# Altium footprint library AIMLAB_TESTSTATION_ADC_V1.PcbLib: 45 footprints (part 3 of 3)
Each footprint in its own frame and in the unit in brackets; x right, y up, seen from the top. Pads: shape width x height; smd on the part's side, far side on the other; paste and mask are expansions set on the pad; w line width, h text height; cw(c..) or ccw(c..) is an arc to the next point about the centre after c.
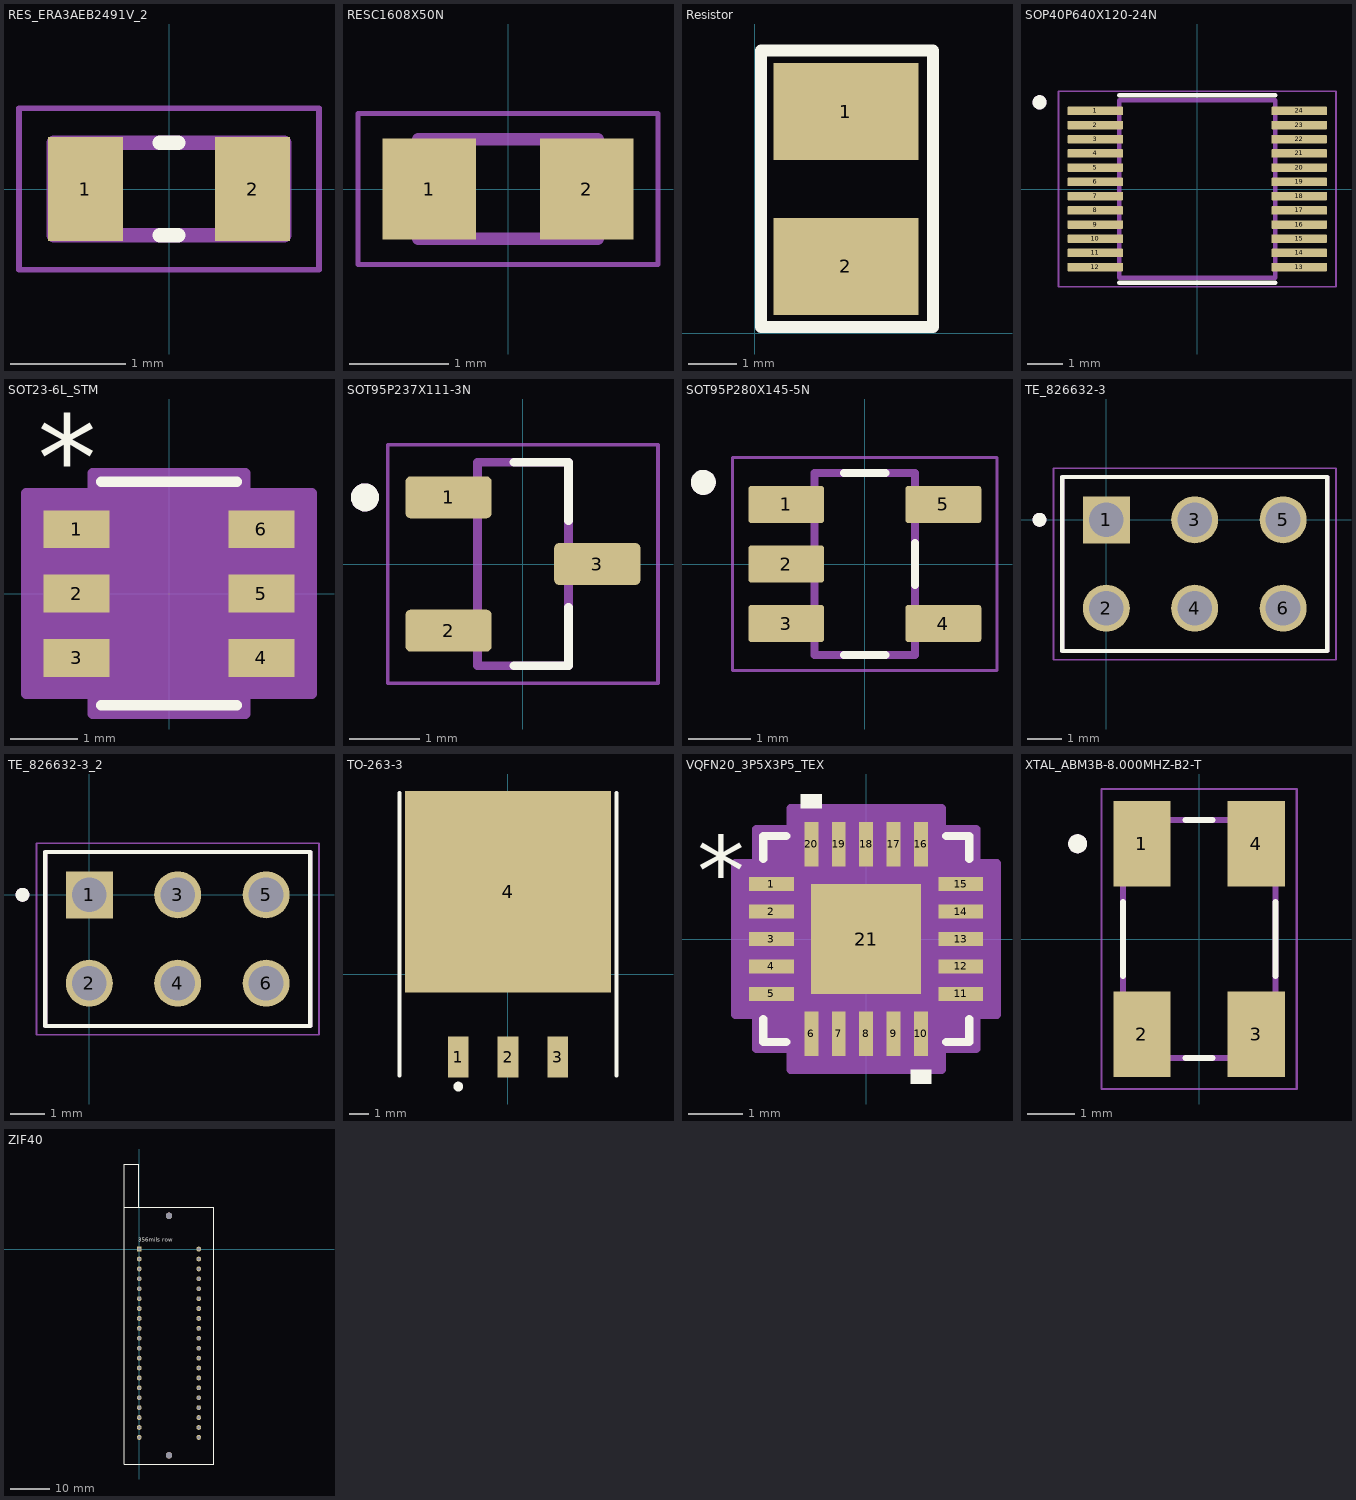
[diagram p2: the footprints below, top view; thin cyan lines are the x and y axes]

## RES_ERA3AEB2491V_2 [mm]
pads (2):
  rect 0.65x0.9 smd: 1(-0.725,0) 2(0.725,0)
Top Overlay:
  lines w0.127: -0.08,-0.4 0.08,-0.4 ; -0.08,0.4 0.08,0.4
Mechanical 13:
  lines w0.127: -1,-0.4 -1,0.4 1,0.4 1,-0.4 -1,-0.4
Mechanical 15:
  lines w0.05: -1.3,-0.7 -1.3,0.7 1.3,0.7 1.3,-0.7 -1.3,-0.7

## RESC1608X50N [mm]
pads (2):
  rect 0.94x1.02 smd: 1(-0.79,0) 2(0.79,0)
Mechanical 13:
  lines w0.127: -0.9,-0.5 -0.9,0.5 0.9,0.5 0.9,-0.5 -0.9,-0.5
Mechanical 15:
  lines w0.05: -1.508,-0.758 -1.508,0.758 1.508,0.758 1.508,-0.758 -1.508,-0.758

## Resistor [mm]
pads (2):
  rect 3x2 smd: 1(1.881,4.581) 2(1.881,1.381)
Top Overlay:
  lines w0.254: 0.127,0.127 0.127,5.842 3.683,5.842 3.683,0.127 0.127,0.127

## SOP40P640X120-24N [mm]
height 1
pads (24):
  rrect25% 1.57x0.24 smd: 1(-2.87,2.2) 2(-2.87,1.8) 3(-2.87,1.4) 4(-2.87,1) 5(-2.87,0.6) 6(-2.87,0.2) 7(-2.87,-0.2) 8(-2.87,-0.6) 9(-2.87,-1) 10(-2.87,-1.4) 11(-2.87,-1.8) 12(-2.87,-2.2) 13(2.87,-2.2) 14(2.87,-1.8) 15(2.87,-1.4) 16(2.87,-1) 17(2.87,-0.6) 18(2.87,-0.2) 19(2.87,0.2) 20(2.87,0.6) 21(2.87,1) 22(2.87,1.4) 23(2.87,1.8) 24(2.87,2.2)
Top Overlay:
  circle w0.2: c-4.44,2.44 r0.1
  lines w0.127: -2.2,-2.64 2.2,-2.64 ; -2.2,2.64 2.2,2.64
Mechanical 13:
  circle w0.2: c-4.44,2.44 r0.1
  lines w0.127: -2.2,-2.5 2.2,-2.5 2.2,2.5 -2.2,2.5 -2.2,-2.5
Mechanical 15:
  lines w0.05: -3.905,-2.75 3.905,-2.75 3.905,2.75 -3.905,2.75 -3.905,-2.75

## SOT23-6L_STM [mil]
pads (6):
  rect 38.5x22 smd paste+0 mask+0: 1(-53.75,37.4) 2(-53.75,0) 3(-53.75,-37.4) 4(53.75,-37.4) 5(53.75,0) 6(53.75,37.4)
Top Overlay:
  lines w6: -39.5,-65 39.5,-65 ; -39.5,65 39.5,65
  text "*" at -76.25,54.4 h50
Mechanical 13:
  lines w0: -12,60 ccw(c0,60) 12,60
  lines w1: -59,-47.4 -34.5,-47.4 -34.5,-27.4 -59,-27.4 -59,-47.4 ; -59,-10 -34.5,-10 -34.5,10 -59,10 -59,-10 ; -59,27.4 -34.5,27.4 -34.5,47.4 -59,47.4 -59,27.4 ; -34.5,-60 -34.5,60 34.5,60 34.5,-60 -34.5,-60 ; 34.5,-47.4 59,-47.4 59,-27.4 34.5,-27.4 34.5,-47.4 ; 34.5,-10 59,-10 59,10 34.5,10 34.5,-10 ; 34.5,27.4 59,27.4 59,47.4 34.5,47.4 34.5,27.4
  text "*" at -32,7 h50
Mechanical 15:
  region: -44.5,-58.4 -83,-58.4 -83,58.4 -44.5,58.4 -44.5,70 44.5,70 44.5,58.4 83,58.4 83,-58.4 44.5,-58.4 44.5,-70 -44.5,-70
  lines w6: -83,-58.4 -44.5,-58.4 -44.5,-70 44.5,-70 44.5,-58.4 83,-58.4 83,58.4 44.5,58.4 44.5,70 -44.5,70 -44.5,58.4 -83,58.4 -83,-58.4
3D body "SOT23-6L_STM.step": height 57.09, standoff 0, extent -59.02,-60 59.02,60

## SOT95P237X111-3N [mm]
height 1.11
pads (3):
  rrect25% 1.23x0.6 smd paste+0 mask+0.102: 1(-1.06,0.95) 2(-1.06,-0.95) 3(1.06,0)
Top Overlay:
  circle w0.2: c-2.25,0.95 r0.1
  lines w0.127: -0.125,-1.45 0.65,-1.45 0.65,-0.62 ; -0.125,1.45 0.65,1.45 0.65,0.62
Mechanical 13:
  circle w0.2: c-2.25,0.95 r0.1
  lines w0.127: -0.65,-1.45 -0.65,1.45 0.65,1.45 0.65,-1.45 -0.65,-1.45
Mechanical 15:
  lines w0.05: -1.925,-1.7 -1.925,1.7 1.925,1.7 1.925,-1.7 -1.925,-1.7

## SOT95P280X145-5N [mm]
height 1.45
pads (5):
  rrect15% 1.21x0.59 smd: 1(-1.255,0.95) 2(-1.255,0) 3(-1.255,-0.95) 4(1.255,-0.95) 5(1.255,0.95)
Top Overlay:
  circle w0.2: c-2.578,1.303 r0.1
  lines w0.127: -0.33,-1.45 0.33,-1.45 ; -0.33,1.45 0.33,1.45 ; 0.8,-0.335 0.8,0.335
Mechanical 13:
  circle w0.2: c-2.578,1.303 r0.1
  lines w0.127: -0.8,-1.45 -0.8,1.45 0.8,1.45 0.8,-1.45 -0.8,-1.45
Mechanical 15:
  lines w0.05: -2.11,-1.7 2.11,-1.7 2.11,1.7 -2.11,1.7 -2.11,-1.7

## TE_826632-3 [mm]
pads (6):
  rect 1.35x1.35 / inner round 1.35 / far side rect 1.35x1.35 hole 1: 1(0,0)
  round 1.35 hole 1: 2(0,-2.54) 3(2.54,0) 4(2.54,-2.54) 5(5.08,0) 6(5.08,-2.54)
Top Overlay:
  circle w0.2: c-1.92,0 r0.1
  lines w0.127: -1.27,-3.77 -1.27,1.23 6.35,1.23 6.35,-3.77 -1.27,-3.77
Mechanical 13:
  circle w0.2: c-1.92,0 r0.1
  lines w0.127: -1.27,-3.77 -1.27,1.23 6.35,1.23 6.35,-3.77 ; -1.27,-3.77 6.35,-3.77 ; -1.27,-3.77 6.35,-3.77
Mechanical 15:
  lines w0.05: -1.52,-4.02 -1.52,1.48 6.6,1.48 6.6,-4.02 -1.52,-4.02

## TE_826632-3_2 [mm]
pads (6):
  rect 1.35x1.35 / inner round 1.35 / far side rect 1.35x1.35 hole 1: 1(0,0)
  round 1.35 hole 1: 2(0,-2.54) 3(2.54,0) 4(2.54,-2.54) 5(5.08,0) 6(5.08,-2.54)
Top Overlay:
  circle w0.2: c-1.92,0 r0.1
  lines w0.127: -1.27,-3.77 -1.27,1.23 6.35,1.23 6.35,-3.77 -1.27,-3.77
Mechanical 13:
  circle w0.2: c-1.92,0 r0.1
  lines w0.127: -1.27,-3.77 -1.27,1.23 6.35,1.23 6.35,-3.77 ; -1.27,-3.77 6.35,-3.77 ; -1.27,-3.77 6.35,-3.77
Mechanical 15:
  lines w0.05: -1.52,-4.02 -1.52,1.48 6.6,1.48 6.6,-4.02 -1.52,-4.02

## TO-263-3 [mm]
pads (4):
  rect 1.05x2.1 smd: 1(-2.54,-4.225) 2(0,-4.225) 3(2.54,-4.225)
  rect 10.5x10.3 smd: 4(0,4.225)
Top Overlay:
  circle w0.25: c-2.54,-5.725 r0.125
  lines w0.2: -5.55,-5.175 -5.55,9.275 ; 5.55,-5.175 5.55,9.275

## VQFN20_3P5X3P5_TEX [mil]
height 39.37
pads (21):
  rect 32x10 smd paste+0 mask+0: 1(-68,39.37) 2(-68,19.68) 3(-68,0) 4(-68,-19.68) 5(-68,-39.37) 11(68,-39.37) 12(68,-19.68) 13(68,0) 14(68,19.68) 15(68,39.37)
  rect 10x32 smd paste+0 mask+0: 6(-39.37,-68) 7(-19.68,-68) 8(0,-68) 9(19.68,-68) 10(39.37,-68) 16(39.37,68) 17(19.68,68) 18(0,68) 19(-19.68,68) 20(-39.37,68)
  rect 79x79 smd paste+0 mask+0: 21(0,0)
Top Overlay:
  region: 46.87,-94 31.87,-94 31.87,-104 46.87,-104
  region: -31.87,94 -46.87,94 -46.87,104 -31.87,104
  lines w6: -74,-57.47 -74,-74 -57.47,-74 ; -74,57.47 -74,74 -57.47,74 ; 57.47,-74 74,-74 74,-57.47 ; 57.47,74 74,74 74,57.47
  text "*" at -121.5,24.21 h50
  text ".Designator" at -138.78,-34.36 h39.37
Mechanical 13:
  lines w1: -69,19 -19,69 ; -72,-45.37 -72,-33.37 -69,-33.37 -69,-45.37 -72,-45.37 ; -72,-25.68 -72,-13.69 -69,-13.69 -69,-25.68 -72,-25.68 ; -72,-6 -72,6 -69,6 -69,-6 -72,-6 ; -72,13.69 -72,25.68 -69,25.68 -69,13.69 -72,13.69 ; -72,33.37 -72,45.37 -69,45.37 -69,33.37 -72,33.37 ; -69,-69 69,-69 69,69 -69,69 -69,-69 ; -45.37,-72 -45.37,-69 -33.37,-69 -33.37,-72 -45.37,-72 ; -45.37,69 -33.37,69 -33.37,72 -45.37,72 -45.37,69 ; -25.68,-72 -25.68,-69 -13.69,-69 -13.69,-72 -25.68,-72 ; -25.68,69 -13.69,69 -13.69,72 -25.68,72 -25.68,69 ; -6,-72 -6,-69 6,-69 6,-72 -6,-72 ; -6,69 6,69 6,72 -6,72 -6,69 ; 13.69,-72 13.69,-69 25.68,-69 25.68,-72 13.69,-72 ; 13.69,69 25.68,69 25.68,72 13.69,72 13.69,69 ; 33.37,-72 33.37,-69 45.37,-69 45.37,-72 33.37,-72 ; 33.37,69 45.37,69 45.37,72 33.37,72 33.37,69 ; 69,-45.37 69,-33.37 72,-33.37 72,-45.37 69,-45.37 ; 69,-25.68 69,-13.69 72,-13.69 72,-25.68 69,-25.68 ; 69,-6 69,6 72,6 72,-6 69,-6 ; 69,13.69 69,25.68 72,25.68 72,13.69 69,13.69 ; 69,33.37 69,45.37 72,45.37 72,33.37 69,33.37
  text ".Designator" at -137.5,-25 h50
  text "*" at -64.5,24.21 h50
Mechanical 15:
  region: -54.37,-79 -79,-79 -79,-54.37 -94,-54.37 -94,54.37 -79,54.37 -79,79 -54.37,79 -54.37,94 54.37,94 54.37,79 79,79 79,54.37 94,54.37 94,-54.37 79,-54.37 79,-79 54.37,-79 54.37,-94 -54.37,-94
  lines w6: -94,-54.37 -79,-54.37 -79,-79 -54.37,-79 -54.37,-94 54.37,-94 54.37,-79 79,-79 79,-54.37 94,-54.37 94,54.37 79,54.37 79,79 54.37,79 54.37,94 -54.37,94 -54.37,79 -79,79 -79,54.37 -94,54.37 -94,-54.37
3D body "VQFN20_3P5X3P5_TEX.step": height 39.09, standoff 0, extent -72.01,-72.01 72.01,72.01

## XTAL_ABM3B-8.000MHZ-B2-T [mm]
height 1.1
pads (4):
  rect 1.2x1.8 smd: 1(-1.2,2) 2(-1.2,-2) 3(1.2,-2) 4(1.2,2)
Top Overlay:
  circle w0.2: c-2.55,2 r0.1
  lines w0.127: -1.6,-0.78 -1.6,0.78 ; -0.28,-2.5 0.28,-2.5 ; -0.28,2.5 0.28,2.5 ; 1.6,-0.78 1.6,0.78
Mechanical 13:
  circle w0.2: c-2.55,2 r0.1
  lines w0.127: -1.6,-2.5 1.6,-2.5 1.6,2.5 -1.6,2.5 -1.6,-2.5
Mechanical 15:
  lines w0.05: -2.05,-3.15 2.05,-3.15 2.05,3.15 -2.05,3.15 -2.05,-3.15
3D body "step_temp.STEP": height 1.1, standoff 0, extent -1.575,-2.5 1.6,2.5

## ZIF40 [mil]
pads (42):
  rect 48x48 hole 32: 1(0,0)
  round 48 hole 32: 2(600,0) 3(0,-100) 4(600,-100) 5(0,-200) 6(600,-200) 7(0,-300) 8(600,-300) 9(0,-400) 10(600,-400) 11(0,-500) 12(600,-500) 13(0,-600) 14(600,-600) 15(0,-700) 16(600,-700) 17(0,-800) 18(600,-800) 19(0,-900) 20(600,-900) 21(0,-1000) 22(600,-1000) 23(0,-1100) 24(600,-1100) 25(0,-1200) 26(600,-1200) 27(0,-1300) 28(600,-1300) 29(0,-1400) 30(600,-1400) 31(0,-1500) 32(600,-1500) 33(0,-1600) 34(600,-1600) 35(0,-1700) 36(600,-1700) 37(0,-1800) 38(600,-1800) 39(0,-1900) 40(600,-1900)
  round 65 hole 65: a(300,335) b(300,-2080)
Top Overlay:
  lines w10: -6,422 -6,858 -150,858 -150,422 ; -150,422 750,422 750,-2168 -150,-2168 -150,422
  text "356mils row" at -10,76 h39.37